# EAGLE library part NRF9E5 (library Nordic)
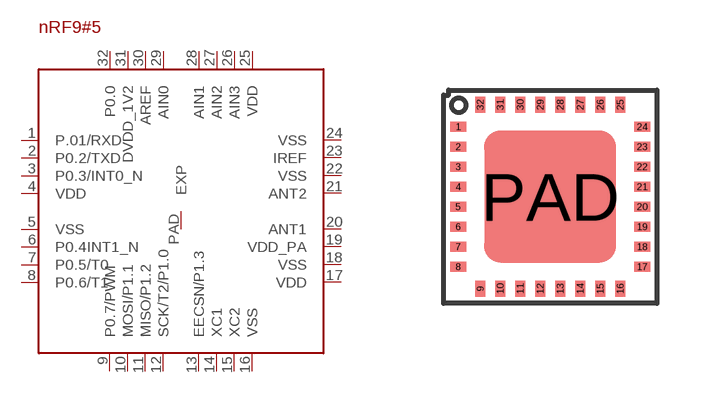
[diagram p3: symbol with the pads of QFN32; footprint QFN32]

Designator prefix -

## NRF9E5  [QFN32]
1  P.01/RXD
2  P0.2/TXD
3  P0.3/INT0_N
4  VDD
5  VSS
6  P0.4INT1_N
7  P0.5/T0
8  P0.6/T1
9  P0.7/PWM
10  MOSI/P1.1
11  MISO/P1.2
12  SCK/T2/P1.0
13  EECSN/P1.3
14  XC1
15  XC2
16  VSS
17  VDD
18  VSS
19  VDD_PA
20  ANT1
21  ANT2
22  VSS
23  IREF
24  VSS
25  VDD
26  AIN3
27  AIN2
28  AIN1
29  AIN0
30  AREF
31  DVDD_1V2
32  P0.0
PAD  EXP

## Footprint QFN32 (pad centres in mm)
smd 0.4 x 0.25: 1 -2.3,1.75; 2 -2.3,1.25; 3 -2.3,0.75; 4 -2.3,0.25; 5 -2.3,-0.25; 6 -2.3,-0.75; 7 -2.3,-1.25; 8 -2.3,-1.75; 17 2.3,-1.75; 18 2.3,-1.25; 19 2.3,-0.75; 20 2.3,-0.25; 21 2.3,0.25; 22 2.3,0.75; 23 2.3,1.25; 24 2.3,1.75
smd 0.25 x 0.4: 9 -1.75,-2.3; 10 -1.25,-2.3; 11 -0.75,-2.3; 12 -0.25,-2.3; 13 0.25,-2.3; 14 0.75,-2.3; 15 1.25,-2.3; 16 1.75,-2.3; 25 1.75,2.3; 26 1.25,2.3; 27 0.75,2.3; 28 0.25,2.3; 29 -0.25,2.3; 30 -0.75,2.3; 31 -1.25,2.3; 32 -1.75,2.3
smd 3.3 x 3.3: PAD 0,0